# Altium schematic symbol library Moa.SchLib: 185 symbols (part 1 of 3)
Pins are listed as number, name and electrical type; pins without a type are passive.

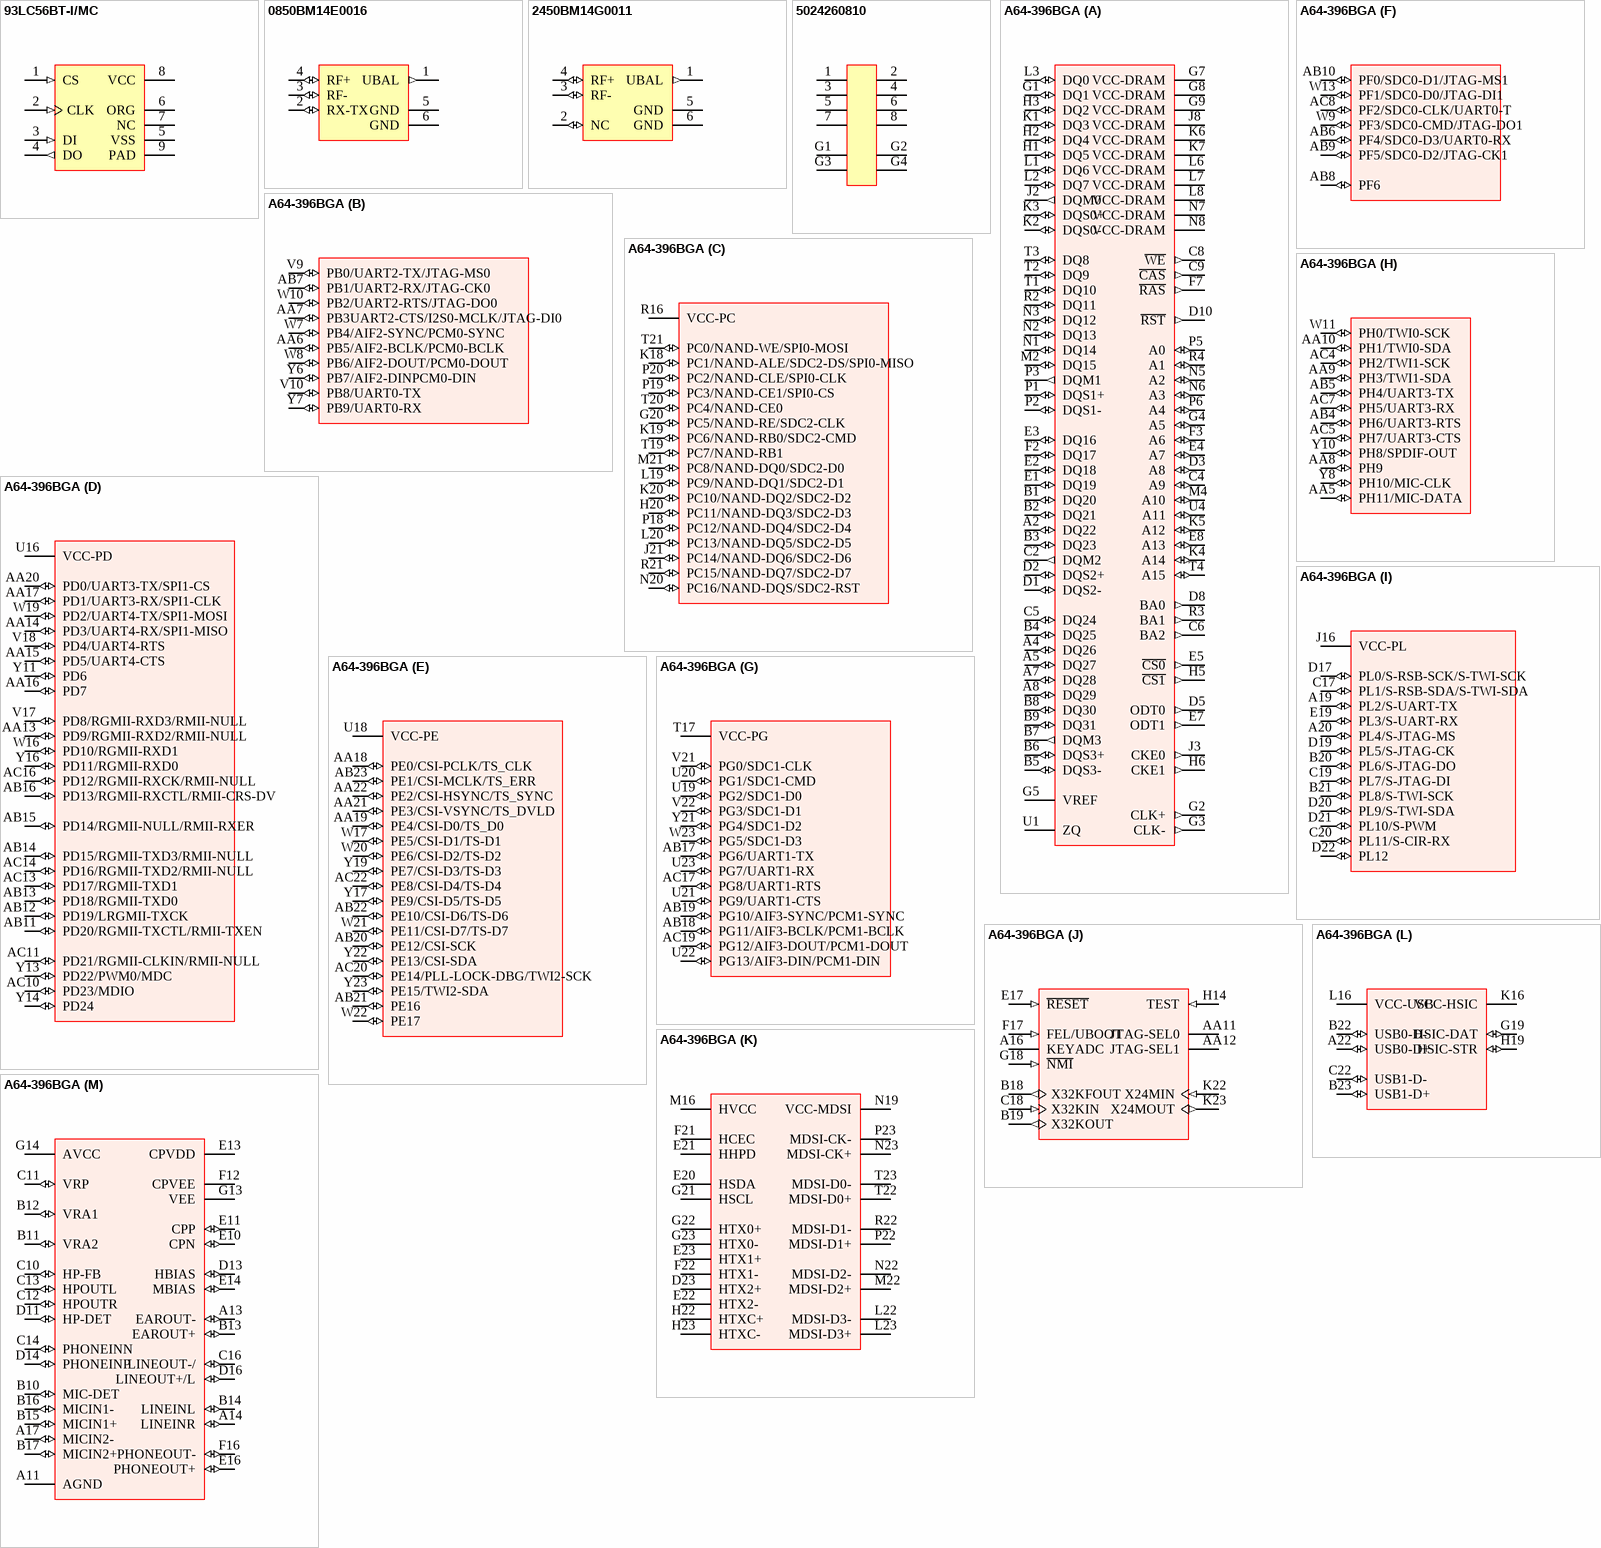
[diagram p0: symbols 93LC56BT-I/MC to A64-396BGA]

## 93LC56BT-I/MC
designator U?
pins: 1 CS (in), 2 CLK (in), 3 DI (in), 4 DO (out), 5 VSS (power), 6 ORG, 7 NC, 8 VCC (power), 9 PAD (power)

## 0850BM14E0016
designator U?
pins: 1 UBAL (out), 2 RX-TX (io), 3 RF- (io), 4 RF+ (io), 5 GND (power), 6 GND (power)

## 2450BM14G0011
designator U?
pins: 1 UBAL (out), 2 NC (io), 3 RF- (io), 4 RF+ (io), 5 GND (power), 6 GND (power)

## 5024260810
designator J?
pins: 1, 2, 3, 4, 5, 6, 7, 8, G1, G2, G3, G4

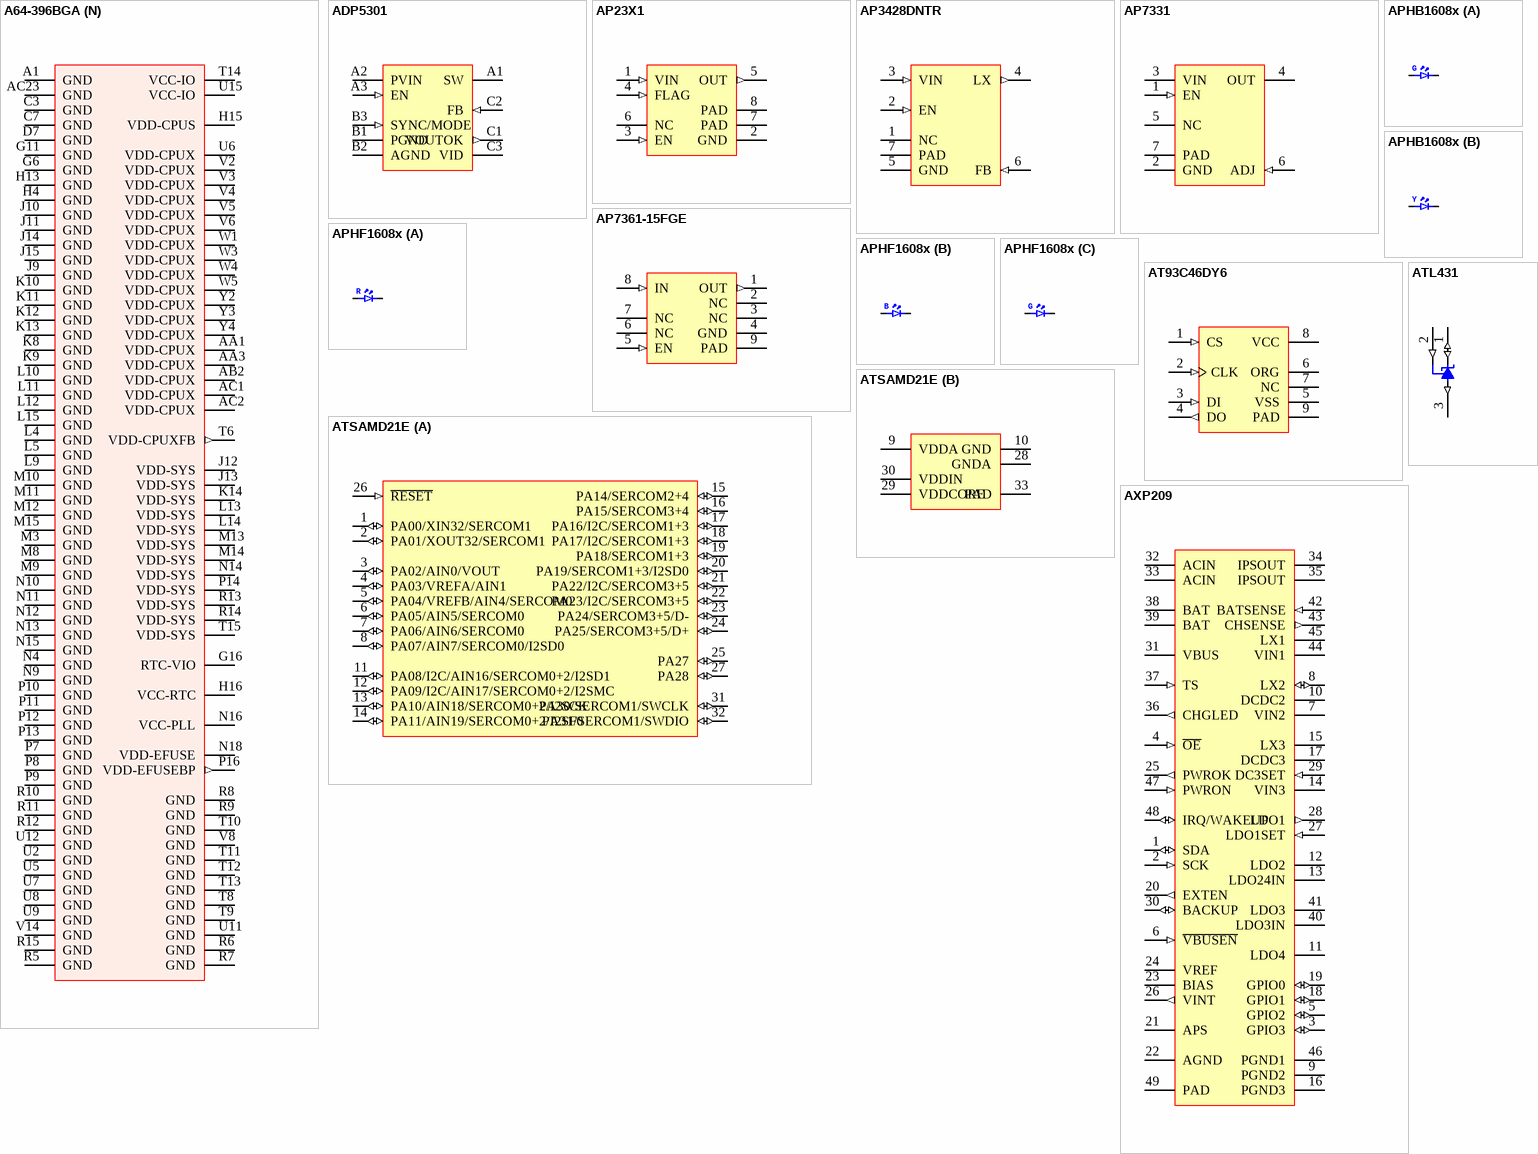
[diagram p1: symbols A64-396BGA to AXP209]

## A64-396BGA
designator U?
part A pins: A2 DQ22 (io) "DRAM", A4 DQ26 (io) "DRAM", A5 DQ27 (io) "DRAM", A7 DQ28 (io) "DRAM", A8 DQ29 (io) "DRAM", B1 DQ20 (io) "DRAM", B2 DQ21 (io) "DRAM", B3 DQ23 (io) "DRAM", B4 DQ25 (io) "DRAM", B5 DQS3- (io) "DRAM", B6 DQS3+ (io) "DRAM", B7 DQM3 (out) "DRAM", B8 DQ30 (io) "DRAM", B9 DQ31 (io) "DRAM", C2 DQM2 (out) "DRAM", C4 A9 (io) "DRAM", C5 DQ24 (io) "DRAM", C6 BA2 (out) "DRAM", C8 ~{WE} (out) "DRAM", C9 ~{CAS} (out) "DRAM", D1 DQS2- (io) "DRAM", D2 DQS2+ (io) "DRAM", D3 A8 (io) "DRAM", D5 ODT0 (out) "DRAM", D8 BA0 (out) "DRAM", D10 ~{RST} (out) "DRAM", E1 DQ19 (io) "DRAM", E2 DQ18 (io) "DRAM", E3 DQ16 (io) "DRAM", E4 A7 (io) "DRAM", E5 ~{CS0} (out) "DRAM", E7 ODT1 (out) "DRAM", E8 A13 (io) "DRAM", F2 DQ17 (io) "DRAM", F3 A6 (io) "DRAM", F7 ~{RAS} (out) "DRAM", G1 DQ1 (io) "DRAM", G2 CLK+ (out) "DRAM", G3 CLK- (out) "DRAM", G4 A5 (io) "DRAM", G5 VREF (power) "DRAM", G7 VCC-DRAM (power) "Power", G8 VCC-DRAM (power) "Power", G9 VCC-DRAM (power) "Power", H1 DQ5 (io) "DRAM", H2 DQ4 (io) "DRAM", H3 DQ2 (io) "DRAM", H5 ~{CS1} (out) "DRAM", H6 CKE1 (out) "DRAM", J2 DQM0 (out) "DRAM", J3 CKE0 (out) "DRAM", J8 VCC-DRAM (power) "Power", K1 DQ3 (io) "DRAM", K2 DQS0- (io) "DRAM", K3 DQS0+ (io) "DRAM", K4 A14 (io) "DRAM", K5 A12 (io) "DRAM", K6 VCC-DRAM (power) "Power", K7 VCC-DRAM (power) "Power", L1 DQ6 (io) "DRAM", L2 DQ7 (io) "DRAM", L3 DQ0 (io) "DRAM", L6 VCC-DRAM (power) "Power", L7 VCC-DRAM (power) "Power", L8 VCC-DRAM (power) "Power", M2 DQ15 (io) "DRAM", M4 A10 (io) "DRAM", N1 DQ14 (io) "DRAM", N2 DQ13 (io) "DRAM", N3 DQ12 (io) "DRAM", N5 A2 (io) "DRAM", N6 A3 (io) "DRAM", N7 VCC-DRAM (power) "Power", N8 VCC-DRAM (power) "Power", P1 DQS1+ (io) "DRAM", P2 DQS1- (io) "DRAM", P3 DQM1 (out) "DRAM", P5 A0 (io) "DRAM", P6 A4 (io) "DRAM", R2 DQ11 (io) "DRAM", R3 BA1 (out) "DRAM", R4 A1 (io) "DRAM", T1 DQ10 (io) "DRAM", T2 DQ9 (io) "DRAM", T3 DQ8 (io) "DRAM", T4 A15 (io) "DRAM", U1 ZQ "DRAM", U4 A11 (io) "DRAM"
part B pins: AA6 PB5/AIF2-BCLK/PCM0-BCLK (io) "GPIO", AA7 PB3UART2-CTS/I2S0-MCLK/JTAG-DI0 (io) "GPIO", AB7 PB1/UART2-RX/JTAG-CK0 (io) "GPIO", V9 PB0/UART2-TX/JTAG-MS0 (io) "GPIO", V10 PB8/UART0-TX (io) "GPIO", W7 PB4/AIF2-SYNC/PCM0-SYNC (io) "GPIO", W8 PB6/AIF2-DOUT/PCM0-DOUT (io) "GPIO", W10 PB2/UART2-RTS/JTAG-DO0  (io) "GPIO", Y6 PB7/AIF2-DINPCM0-DIN (io) "GPIO", Y7 PB9/UART0-RX (io) "GPIO"
part C pins: G20 PC5/NAND-RE/SDC2-CLK (io) "GPIO", H20 PC11/NAND-DQ3/SDC2-D3 (io) "GPIO", J21 PC14/NAND-DQ6/SDC2-D6 (io) "GPIO", K18 PC1/NAND-ALE/SDC2-DS/SPI0-MISO (io) "GPIO", K19 PC6/NAND-RB0/SDC2-CMD (io) "GPIO", K20 PC10/NAND-DQ2/SDC2-D2 (io) "GPIO", L19 PC9/NAND-DQ1/SDC2-D1 (io) "GPIO", L20 PC13/NAND-DQ5/SDC2-D5 (io) "GPIO", M21 PC8/NAND-DQ0/SDC2-D0 (io) "GPIO", N20 PC16/NAND-DQS/SDC2-RST (io) "GPIO", P18 PC12/NAND-DQ4/SDC2-D4 (io) "GPIO", P19 PC3/NAND-CE1/SPI0-CS (io) "GPIO", P20 PC2/NAND-CLE/SPI0-CLK (io) "GPIO", R16 VCC-PC (power) "Power", R21 PC15/NAND-DQ7/SDC2-D7 (io) "GPIO", T19 PC7/NAND-RB1 (io) "GPIO", T20 PC4/NAND-CE0 (io) "GPIO", T21 PC0/NAND-WE/SPI0-MOSI (io) "GPIO"
part D pins: AA13  PD9/RGMII-RXD2/RMII-NULL (io) "GPIO", AA14 PD3/UART4-RX/SPI1-MISO (io) "GPIO", AA15 PD5/UART4-CTS (io) "GPIO", AA16 PD7 (io) "GPIO", AA17 PD1/UART3-RX/SPI1-CLK (io) "GPIO", AA20 PD0/UART3-TX/SPI1-CS (io) "GPIO", AB11  PD20/RGMII-TXCTL/RMII-TXEN (io) "GPIO", AB12  PD19/LRGMII-TXCK (io) "GPIO", AB13  PD18/RGMII-TXD0 (io) "GPIO", AB14  PD15/RGMII-TXD3/RMII-NULL (io) "GPIO", AB15  PD14/RGMII-NULL/RMII-RXER (io) "GPIO", AB16  PD13/RGMII-RXCTL/RMII-CRS-DV (io) "GPIO", AC10 PD23/MDIO (io) "GPIO", AC11 PD21/RGMII-CLKIN/RMII-NULL (io) "GPIO", AC13  PD17/RGMII-TXD1 (io) "GPIO", AC14  PD16/RGMII-TXD2/RMII-NULL (io) "GPIO", AC16  PD12/RGMII-RXCK/RMII-NULL (io) "GPIO", U16 VCC-PD (power) "Power", V17  PD8/RGMII-RXD3/RMII-NULL (io) "GPIO", V18  PD4/UART4-RTS (io) "GPIO", W16 PD10/RGMII-RXD1 (io) "GPIO", W19 PD2/UART4-TX/SPI1-MOSI (io) "GPIO", Y11  PD6 (io) "GPIO", Y13 PD22/PWM0/MDC  (io) "GPIO", Y14 PD24 (io) "GPIO", Y16 PD11/RGMII-RXD0 (io) "GPIO"
part E pins: AA18 PE0/CSI-PCLK/TS_CLK (io) "GPIO", AA19 PE4/CSI-D0/TS_D0 (io) "GPIO", AA21 PE3/CSI-VSYNC/TS_DVLD (io) "GPIO", AA22 PE2/CSI-HSYNC/TS_SYNC  (io) "GPIO", AB20 PE12/CSI-SCK (io) "GPIO", AB21 PE16 (io) "GPIO", AB22 PE10/CSI-D6/TS-D6 (io) "GPIO", AB23 PE1/CSI-MCLK/TS_ERR (io) "GPIO", AC20 PE14/PLL-LOCK-DBG/TWI2-SCK (io) "GPIO", AC22 PE8/CSI-D4/TS-D4 (io) "GPIO", U18 VCC-PE (power) "Power", W17 PE5/CSI-D1/TS-D1 (io) "GPIO", W20 PE6/CSI-D2/TS-D2 (io) "GPIO", W21 PE11/CSI-D7/TS-D7 (io) "GPIO", W22 PE17 (io) "GPIO", Y17 PE9/CSI-D5/TS-D5 (io) "GPIO", Y19 PE7/CSI-D3/TS-D3 (io) "GPIO", Y22 PE13/CSI-SDA (io) "GPIO", Y23 PE15/TWI2-SDA (io) "GPIO"
part F pins: AB6 PF4/SDC0-D3/UART0-RX (io) "GPIO", AB8 PF6 (io) "GPIO", AB9 PF5/SDC0-D2/JTAG-CK1 (io) "GPIO", AB10 PF0/SDC0-D1/JTAG-MS1 (io) "GPIO", AC8 PF2/SDC0-CLK/UART0-T (io) "GPIO", W9 PF3/SDC0-CMD/JTAG-DO1 (io) "GPIO", W13 PF1/SDC0-D0/JTAG-DI1  (io) "GPIO"
part G pins: AB17 PG6/UART1-TX (io) "GPIO", AB18 PG11/AIF3-BCLK/PCM1-BCLK (io) "GPIO", AB19 PG10/AIF3-SYNC/PCM1-SYNC (io) "GPIO", AC17 PG8/UART1-RTS (io) "GPIO", AC19 PG12/AIF3-DOUT/PCM1-DOUT (io) "GPIO", T17 VCC-PG (power) "Power", U19 PG2/SDC1-D0 (io) "GPIO", U20 PG1/SDC1-CMD (io) "GPIO", U21 PG9/UART1-CTS (io) "GPIO", U22 PG13/AIF3-DIN/PCM1-DIN (io) "GPIO", U23 PG7/UART1-RX (io) "GPIO", V21 PG0/SDC1-CLK (io) "GPIO", V22 PG3/SDC1-D1 (io) "GPIO", W23 PG5/SDC1-D3 (io) "GPIO", Y21 PG4/SDC1-D2 (io) "GPIO"
part H pins: AA5 PH11/MIC-DATA (io) "GPIO", AA8 PH9 (io) "GPIO", AA9 PH3/TWI1-SDA (io) "GPIO", AA10 PH1/TWI0-SDA (io) "GPIO", AB4 PH6/UART3-RTS (io) "GPIO", AB5 PH4/UART3-TX (io) "GPIO", AC4 PH2/TWI1-SCK (io) "GPIO", AC5 PH7/UART3-CTS (io) "GPIO", AC7 PH5/UART3-RX (io) "GPIO", W11 PH0/TWI0-SCK (io) "GPIO", Y8 PH10/MIC-CLK (io) "GPIO", Y10 PH8/SPDIF-OUT (io) "GPIO"
part I pins: A19  PL2/S-UART-TX (io) "GPIO", A20  PL4/S-JTAG-MS (io) "GPIO", B20  PL6/S-JTAG-DO (io) "GPIO", B21  PL8/S-TWI-SCK (io) "GPIO", C17 PL1/S-RSB-SDA/S-TWI-SDA (io) "GPIO", C19  PL7/S-JTAG-DI (io) "GPIO", C20  PL11/S-CIR-RX (io) "GPIO", D17  PL0/S-RSB-SCK/S-TWI-SCK (io) "GPIO", D19  PL5/S-JTAG-CK (io) "GPIO", D20  PL9/S-TWI-SDA (io) "GPIO", D21  PL10/S-PWM (io) "GPIO", D22 PL12  (io) "GPIO", E19  PL3/S-UART-RX (io) "GPIO", J16 VCC-PL (power) "Power"
part J pins: A16 KEYADC "LRADC", AA11 JTAG-SEL0 "Debug", AA12 JTAG-SEL1 "Debug", B18 X32KFOUT (out) "RTC", B19 X32KOUT (out) "RTC", C18 X32KIN (in) "RTC", E17 ~{RESET} (in) "System Control", F17 FEL/UBOOT (in) "System Control", G18 ~{NMI} (in) "System Control", H14 TEST (in) "System Control", K22 X24MIN (in) "System Control", K23 X24MOUT (out) "System Control"
part K pins: D23 HTX2+ "HDMI", E20 HSDA "HDMI", E21 HHPD "HDMI", E22 HTX2- "HDMI", E23 HTX1+ "HDMI", F21 HCEC "HDMI", F22 HTX1- "HDMI", G21 HSCL "HDMI", G22 HTX0+ "HDMI", G23 HTX0- "HDMI", H22 HTXC+ "HDMI", H23 HTXC- "HDMI", L22 MDSI-D3- "MIPI DSI", L23 MDSI-D3+ "MIPI DSI", M16 HVCC (power) "Power", M22 MDSI-D2+ "MIPI DSI", N19 VCC-MDSI (power) "Power", N22 MDSI-D2- "MIPI DSI", N23 MDSI-CK+ "MIPI DSI", P22 MDSI-D1+ "MIPI DSI", P23 MDSI-CK- "MIPI DSI", R22 MDSI-D1- "MIPI DSI", T22 MDSI-D0+ "MIPI DSI", T23 MDSI-D0- "MIPI DSI"
part L pins: A22 USB0-D+ (io) "USB", B22 USB0-D- (io) "USB", B23 USB1-D+ (io) "USB", C22 USB1-D- (io) "USB", G19 HSIC-DAT (io) "HSIC", H19 HSIC-STR (io) "HSIC", K16 VCC-HSIC (power) "Power", L16 VCC-USB (power) "Power"
part M pins: A11 AGND (power) "Power", A13 EAROUT- (io) "Audio Codec", A14 LINEINR (io) "Audio Codec", A17 MICIN2- (io) "Audio Codec", B10 MIC-DET (io) "Audio Codec", B11 VRA2 (io) "Audio Codec", B12 VRA1 (io) "Audio Codec", B13 EAROUT+ (io) "Audio Codec", B14 LINEINL (io) "Audio Codec", B15 MICIN1+ (io) "Audio Codec", B16 MICIN1- (io) "Audio Codec", B17 MICIN2+ (io) "Audio Codec", C10 HP-FB (io) "Audio Codec", C11 VRP (io) "Audio Codec", C12 HPOUTR (io) "Audio Codec", C13 HPOUTL (io) "Audio Codec", C14 PHONEINN (io) "Audio Codec", C16 LINEOUT-/ (io) "Audio Codec", D11 HP-DET (io) "Audio Codec", D13 HBIAS (io) "Audio Codec", D14 PHONEINP (io) "Audio Codec", D16 LINEOUT+/L (io) "Audio Codec", E10 CPN (io) "Audio Codec", E11 CPP (io) "Audio Codec", E13 CPVDD (power) "Power", E14 MBIAS (io) "Audio Codec", E16 PHONEOUT+ (io) "Audio Codec", F12 CPVEE (power) "Power", F16 PHONEOUT- (io) "Audio Codec", G13 VEE (power) "Power", G14 AVCC (power) "Power"
part N pins: A1 GND (power) "Power", AA1 VDD-CPUX (power) "Power", AA3 VDD-CPUX (power) "Power", AB2 VDD-CPUX (power) "Power", AC1 VDD-CPUX (power) "Power", AC2 VDD-CPUX (power) "Power", AC23 GND (power) "Power", C3 GND (power) "Power", C7 GND (power) "Power", D7 GND (power) "Power", G6 GND (power) "Power", G11 GND (power) "Power", G16 RTC-VIO (power) "Power", H4 GND (power) "Power", H13 GND (power) "Power", H15 VDD-CPUS (power) "Power", H16 VCC-RTC (power) "Power", J9 GND (power) "Power", J10 GND (power) "Power", J11 GND (power) "Power", J12 VDD-SYS (power) "Power", J13 VDD-SYS (power) "Power", J14 GND (power) "Power", J15 GND (power) "Power", K8 GND (power) "Power", K9 GND (power) "Power", K10 GND (power) "Power", K11 GND (power) "Power", K12 GND (power) "Power", K13 GND (power) "Power", K14 VDD-SYS (power) "Power", L4 GND (power) "Power", L5 GND (power) "Power", L9 GND (power) "Power", L10 GND (power) "Power", L11 GND (power) "Power", L12 GND (power) "Power", L13 VDD-SYS (power) "Power", L14 VDD-SYS (power) "Power", L15 GND (power) "Power", M3 GND (power) "Power", M8 GND (power) "Power", M9 GND (power) "Power", M10 GND (power) "Power", M11 GND (power) "Power", M12 GND (power) "Power", M13 VDD-SYS (power) "Power", M14 VDD-SYS (power) "Power", M15 GND (power) "Power", N4 GND (power) "Power", N9 GND (power) "Power", N10 GND (power) "Power", N11 GND (power) "Power", N12 GND (power) "Power", N13 GND (power) "Power", N14 VDD-SYS (power) "Power", N15 GND (power) "Power", N16 VCC-PLL (power) "Power", N18 VDD-EFUSE (power) "Power", P7 GND (power) "Power", P8 GND (power) "Power", P9 GND (power) "Power", P10 GND (power) "Power", P11 GND (power) "Power", P12 GND (power) "Power", P13 GND (power) "Power", P14 VDD-SYS (power) "Power", P16 VDD-EFUSEBP (out) "Power", R5 GND (power) "Power", R6 GND (power) "Power", R7 GND (power) "Power", R8 GND (power) "Power", R9 GND (power) "Power", R10 GND (power) "Power", R11 GND (power) "Power", R12 GND (power) "Power", R13 VDD-SYS (power) "Power", R14 VDD-SYS (power) "Power", R15 GND (power) "Power", T6 VDD-CPUXFB (out) "Power", T8 GND (power) "Power", T9 GND (power) "Power", T10 GND (power) "Power", T11 GND (power) "Power", T12 GND (power) "Power", T13 GND (power) "Power", T14 VCC-IO (power) "Power", T15 VDD-SYS (power) "Power", U2 GND (power) "Power", U5 GND (power) "Power", U6 VDD-CPUX (power) "Power", U7 GND (power) "Power", U8 GND (power) "Power", U9 GND (power) "Power", U11 GND (power) "Power", U12 GND (power) "Power", U15 VCC-IO (power) "Power", V2 VDD-CPUX (power) "Power", V3 VDD-CPUX (power) "Power", V4 VDD-CPUX (power) "Power", V5 VDD-CPUX (power) "Power", V6 VDD-CPUX (power) "Power", V8 GND (power) "Power", V14 GND (power) "Power", W1 VDD-CPUX (power) "Power", W3 VDD-CPUX (power) "Power", W4 VDD-CPUX (power) "Power", W5 VDD-CPUX (power) "Power", Y2 VDD-CPUX (power) "Power", Y3 VDD-CPUX (power) "Power", Y4 VDD-CPUX (power) "Power"

## ADP5301
designator U?
pins: A1 SW (power), A2 PVIN (power), A3 EN (in), B1 PGND (power), B2 AGND (power), B3 SYNC/MODE (in), C1 VOUTOK (out), C2 FB (in), C3 VID

## AP23X1
designator U?
pins: 1 VIN (in), 2 GND (power), 3 EN (in), 4 FLAG (in), 5 OUT (out), 6 NC, 7 PAD (power), 8 PAD (power)

## AP3428DNTR
designator U?
pins: 1 NC, 2 EN (in), 3 VIN (in), 4 LX (out), 5 GND (power), 6 FB (in), 7 PAD (power)

## AP7331
designator U?
pins: 1 EN (in), 2 GND (power), 3 VIN (power), 4 OUT (power), 5 NC, 6 ADJ (in), 7 PAD (power)

## AP7361-15FGE
designator U?
pins: 1 OUT (out), 2 NC, 3 NC, 4 GND (power), 5 EN (in), 6 NC, 7 NC, 8 IN (in), 9 PAD (power)

## APHB1608x
designator D?
part A pins: 1, 2
part B pins: 3, 4
part A text: G
part B text: Y

## APHF1608x
designator D?
part A pins: 1, 2
part B pins: 1, 3
part C pins: 1, 4
part A text: R
part B text: B
part C text: G

## AT93C46DY6
designator U?
pins: 1 CS (in), 2 CLK (in), 3 DI (in), 4 DO (out), 5 VSS (power), 6 ORG, 7 NC, 8 VCC (power), 9 PAD (power)

## ATL431
designator U?
pins: 1 CATHODE (io), 2 REF (in), 3 ANODE (out)

## ATSAMD21E
designator U?
part A pins: 1 PA00/XIN32/SERCOM1 (io), 2 PA01/XOUT32/SERCOM1 (io), 3 PA02/AIN0/VOUT (io), 4 PA03/VREFA/AIN1 (io), 5 PA04/VREFB/AIN4/SERCOM0 (io), 6 PA05/AIN5/SERCOM0 (io), 7 PA06/AIN6/SERCOM0 (io), 8 PA07/AIN7/SERCOM0/I2SD0 (io), 11 PA08/I2C/AIN16/SERCOM0+2/I2SD1 (io), 12 PA09/I2C/AIN17/SERCOM0+2/I2SMC (io), 13 PA10/AIN18/SERCOM0+2/I2SCK (io), 14 PA11/AIN19/SERCOM0+2/I2SF0 (io), 15 PA14/SERCOM2+4 (io), 16 PA15/SERCOM3+4 (io), 17 PA16/I2C/SERCOM1+3 (io), 18 PA17/I2C/SERCOM1+3 (io), 19 PA18/SERCOM1+3 (io), 20 PA19/SERCOM1+3/I2SD0 (io), 21 PA22/I2C/SERCOM3+5 (io), 22 PA23/I2C/SERCOM3+5 (io), 23 PA24/SERCOM3+5/D- (io), 24 PA25/SERCOM3+5/D+ (io), 25 PA27 (io), 26 ~{RESET} (in), 27 PA28 (io), 31 PA30/SERCOM1/SWCLK (io), 32 PA31/SERCOM1/SWDIO (io)
part B pins: 9 VDDA (power), 10 GND (power), 28 GNDA (power), 29 VDDCORE (power), 30 VDDIN (power), 33 PAD (power)

## AXP209
designator U?
pins: 1 SDA (io) "Data pin for serial interface, normally it connect a 2.2K resistor to 3.3V I/O power", 2 SCK (in) "It is the Clock pin for serial interface, normally it connect a 2.2K resistor to 3.3V I/O power", 3 GPIO3 (io) "GPIO 3", 4 ~{OE} (in) "Power output on / off switch GND: on; IPSOUT: off", 5 GPIO2 (io) "GPIO 2", 6 ~{VBUSEN} (in) "VBUS to IPSOUT Selection - GND: IPSOUT select VBUS - High: IPSOUT do not select VBUS", 7 VIN2 (power) "DCDC2 input source", 8 LX2 (io) "Inductor Pin for DCDC2", 9 PGND2 (power) "NMOS Ground for DCDC2", 10 DCDC2 (power) "DC-DC2 feedback pin", 11 LDO4 (power) "Output Pin of LDO4", 12 LDO2 (power) "Output Pin of LDO2", 13 LDO24IN (power) "Input to LDO2 and LDO4", 14 VIN3 (power) "DCDC3 input source", 15 LX3 (power) "Inductor Pin for DCDC3", 16 PGND3 (power) "NMOS GND for DCDC3", 17 DCDC3 (power) "Feedback to DCDC3", 18 GPIO1 (io) "GPIO 1 - ADC Input", 19 GPIO0 (io) "GPIO 0 - Low noise LDO / Switch - ADC Input", 20 EXTEN (out) "External Power Enable", 21 APS (power) "Internal Power Input", 22 AGND (power) "Analog Ground", 23 BIAS "External 200Kohm 1% resistor", 24 VREF (power) "Internal reference voltage", 25 PWROK (out) "Power Good indication Output", 26 VINT (out) "Internal logic power, 2.5V", 27 LDO1SET (in) "It set the LDO1 default voltage.", 28 LDO1 (out) "LDO1 output, for Host RTC block", 29 DC3SET (in) "It set the DCDC3 default voltage", 30 BACKUP (io) "Backup battery pin", 31 VBUS (power) "USB VBUS input", 32 ACIN (power) "Adapter input", 33 ACIN (power) "Adapter input", 34 IPSOUT (power) "Selected power", 35 IPSOUT (power) "Selected power", 36 CHGLED (out) "Charger status indication", 37 TS (in) "Battery Temperature sensor input or an external ADC input", 38 BAT (power) "System power source", 39 BAT (power) "System power source", 40 LDO3IN (power) "LDO3 input source", 41 LDO3 (power) "Output Pin of LDO3", 42 BATSENSE (in) "Current sense port1", 43 CHSENSE (out) "Current sense port2", 44 VIN1 (power) "DCDC1 input source", 45 LX1 (power) "Inductor Pin for DCDC1", 46 PGND1 (power) "NMOS Ground for DCDC1", 47 PWRON (in) "Power On-Off key input,Internal 100k pull high to APS", 48 IRQ/WAKEUP (io) "IRQ output or wakeup", 49 PAD (power) "Exposed Pad, need to connect to system ground"

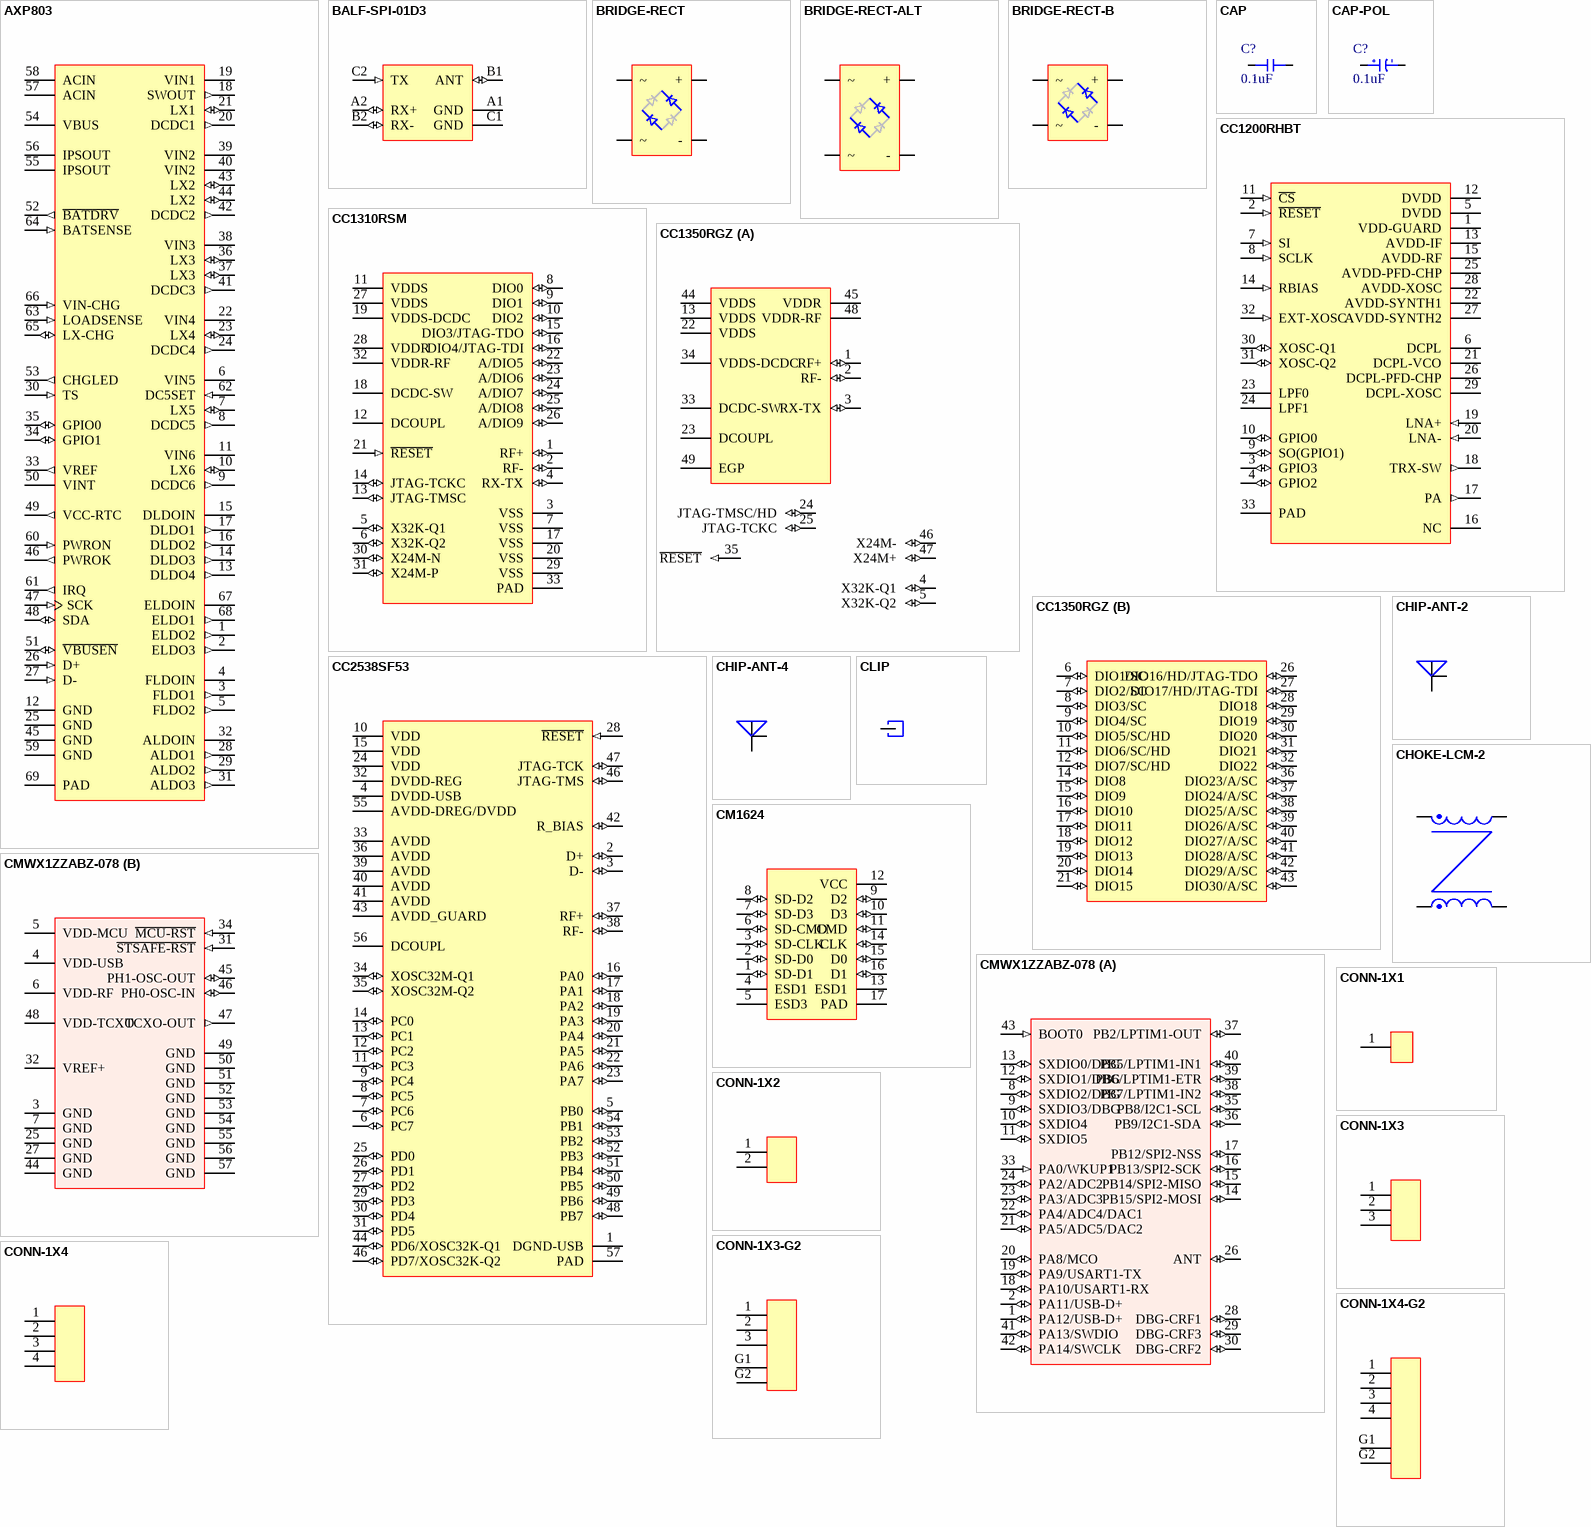
[diagram p2: symbols AXP803 to CONN-1X4-G2]

## AXP803
designator U?
pins: 1 ELDO2 (out) "Output pin of ELDO2", 2 ELDO3 (out) "Output pin of ELDO3", 3 FLDO1 (out) "Output Pin of FLDO1", 4 FLDOIN (power) "FLDOs input source", 5 FLDO2 (out) "Output Pin of FLDO2", 6 VIN5 (power) "DCDC5 input source", 7 LX5 (io) "Inductor Pin for DCDC5", 8 DCDC5 (out) "DCDC5 feedback pin", 9 DCDC6 (out) "DCDC6 feedback pin", 10 LX6 (io) "Inductor Pin for DCDC6", 11 VIN6 (power) "DCDC6 input source", 12 GND (power) "GND for internal analog circuit", 13 DLDO4 (out) "Output Pin of DLDO4", 14 DLDO3 (out) "Output Pin of DLDO3", 15 DLDOIN (power) "DLDOs input source", 16 DLDO2 (out) "Output Pin of DLDO2", 17 DLDO1 (out) "Output Pin of DLDO1", 18 SWOUT (out) "Output pin of switch form DCDC1", 19 VIN1 (power) "DCDC1 input source", 20 DCDC1 (out) "DCDC1 feedback and Switch(from DCDC1 to SWOUT) input pin", 21 LX1 (io) "Inductor Pin for DCDC1", 22 VIN4 (power) "DCDC4 input source", 23 LX4 (io) "Inductor Pin for DCDC4", 24 DCDC4 (out) "DCDC4 feedback pin", 25 GND (power) "GND for internal analog circuit", 26 D+ (in) "Charger detection, USB D+", 27 D- (in) "Charger detection, USB D-", 28 ALDO1 (out) "Output pin of ALDO1", 29 ALDO2 (out) "Output pin of ALDO2", 30 TS (in) "Battery Temperature Sensor Input or an External ADC Input", 31 ALDO3 (out) "Output pin of ALDO3", 32 ALDOIN (power) "ALDOs and internal module input source", 33 VREF (out) "Internal reference voltage, connect a 1uF capacitor to ground", 34 GPIO1 (io) "General purpose I/O or LDO by REG92H. When it's digital input, the logic high level is 1.5V, and the logic low level is 0.5V typically. When it's digital output, the logic high level is decided by REG93H.", 35 GPIO0 (io) "General purpose I/O/ADC input or LDO by REG90H. When it's digital input, the logic high level is 1.5V, and the logic low level is 0.5V typically. When it's digital output, the logic high level is decided by REG91H.", 36 LX3 (io) "Inductor Pin for DCDC3", 37 LX3 (io) "Inductor Pin for DCDC3", 38 VIN3 (power) "DCDC3 input source", 39 VIN2 (power) "DCDC2/3 input source", 40 VIN2 (power) "DCDC2 input source", 41 DCDC3 (out) "DCDC3 feedback pin", 42 DCDC2 (out) "DCDC2 feedback pin", 43 LX2 (io) "Inductor Pin for DCDC2", 44 LX2 (io) "Inductor Pin for DCDC2", 45 GND (power) "GND for internal analog circuit", 46 PWROK (out) "Power Good pin, push-pull output , and pull to VCC_RTC internal", 47 SCK (in) "Clock pin for serial interface, need a 2.2KΩ Pull High.", 48 SDA (io) "Data pin for serial interface, need a 2.2KΩ Pull High.", 49 VCC-RTC (out) "Output pin of RTCLDO", 50 VINT "Internal logic power, 1.8V", 51 ~{VBUSEN} (io) "VBUS select or not setting pin", 52 ~{BATDRV} (out) "BAT to PS extern PMOS driver", 53 CHGLED (out) "Charger status indication", 54 VBUS (power) "VBUS input", 55 IPSOUT "System power source", 56 IPSOUT "System power source", 57 ACIN (power) "ACIN input", 58 ACIN (power) "ACIN input", 59 GND (power) "GND for internal analog circuit", 60 PWRON (in) "Power On-Off key input，Internal 100k pull high to VINT pin", 61 IRQ (out) "Interrupt output, open drain output, need a 10KΩ Pull High", 62 DC5SET (in) "Setting DCDC5 default Output Voltage, this pin must tied to GND/VINT or floating.", 63 LOADSENSE (in) "PWM Charger Current Sense Resistance Positive Input", 64 BATSENSE (in) "PWM Charger Current Sense Resistance Negative Input", 65 LX-CHG (io) "Inductor Pin for PWM Charger", 66 VIN-CHG (in) "Charger input source", 67 ELDOIN (power) "ELDOs input source", 68 ELDO1 (out) "Output pin of ELDO1", 69 PAD (power) "Exposed pad, connected to PCB ground"

## BALF-SPI-01D3
designator U?
pins: A1 GND (power), A2 RX+ (io), B1 ANT (io), B2 RX- (io), C1 GND (power), C2 TX (in)

## BRIDGE-RECT
designator D?
pins: 1 +, 2 -, 3 ~, 4 ~

## BRIDGE-RECT-ALT
designator D?
pins: 1 ~, 2 +, 3 ~, 4 -

## BRIDGE-RECT-B
designator D?
pins: 1 +, 2 ~, 3 ~, 4 -

## CAP
designator C?, comment 0.1uF
Value: 0.1uF
pins: 1, 2

## CAP-POL
designator C?, comment 0.1uF
Value: 0.1uF
pins: 1, 2

## CC1200RHBT
designator U?
pins: 1 VDD-GUARD (power) "Power", 2 ~{RESET} (in) "Reset", 3 GPIO3 (io) "GPIO", 4 GPIO2 (io) "GPIO", 5 DVDD (power) "Power", 6 DCPL (power) "Power", 7 SI (in) "SPI", 8 SCLK (in) "SPI", 9 SO(GPIO1) (io) "SPI", 10 GPIO0 (io) "GPIO", 11 ~{CS} (in) "SPI", 12 DVDD (power) "Power", 13 AVDD-IF (power) "Radio", 14 RBIAS (in) "Power", 15 AVDD-RF (power) "Radio", 16 NC "Passive", 17 PA (out) "Radio", 18 TRX-SW (out) "Radio", 19 LNA+ (in) "Radio", 20 LNA- (in) "Radio", 21 DCPL-VCO (power) "Power", 22 AVDD-SYNTH1 (power) "Power", 23 LPF0 "Radio", 24 LPF1 "Radio", 25 AVDD-PFD-CHP (power) "Power", 26 DCPL-PFD-CHP (power) "Power", 27 AVDD-SYNTH2 (power) "Power", 28 AVDD-XOSC (power) "Power", 29 DCPL-XOSC (power) "Power", 30 XOSC-Q1 (io) "Clock", 31 XOSC-Q2 (io) "Clock", 32 EXT-XOSC (in) "Clock", 33 PAD (power) "Pad"

## CC1310RSM
designator U?
pins: 1 RF+ (io) "Positive RF input signal to LNA during RX Positive RF output signal from PA during TX", 2 RF- (io) "Negative RF input signal to LNA during RX Negative RF output signal from PA during TX", 3 VSS (power) "Ground", 4 RX-TX (io) "Optional bias pin for the RF LNA", 5 X32K-Q1 (io) "32-kHz crystal oscillator pin 1", 6 X32K-Q2 (io) "32-kHz crystal oscillator pin 2", 7 VSS (power) "Ground", 8 DIO0 (io) "GPIO, Sensor Controller, high-drive capability", 9 DIO1 (io) "GPIO, Sensor Controller, high-drive capability", 10 DIO2 (io) "GPIO, Sensor Controller, high-drive capability", 11 VDDS (power) "1.8-V to 3.8-V GPIO supply(1)", 12 DCOUPL (power) "1.27-V regulated digital-supply decoupling cap", 13 JTAG-TMSC (io) "JTAG TMSC", 14 JTAG-TCKC (io) "JTAG TCKC", 15 DIO3/JTAG-TDO (io) "GPIO, high-drive capability, JTAG_TDO", 16 DIO4/JTAG-TDI (io) "GPIO, high-drive capability, JTAG_TDI", 17 VSS (power) "Ground", 18 DCDC-SW (power) "Output from internal DC-DC(1)", 19 VDDS-DCDC (power) "1.8-V to 3.8-V DC-DC supply", 20 VSS (power) "Ground", 21 ~{RESET} (in) "Reset, active low. No internal pullup.", 22 A/DIO5 (io) "GPIO, Sensor Controller, analog", 23 A/DIO6 (io) "GPIO, Sensor Controller, analog", 24 A/DIO7 (io) "GPIO, Sensor Controller, analog", 25 A/DIO8 (io) "GPIO, Sensor Controller, analog", 26 A/DIO9 (io) "GPIO, Sensor Controller, analog", 27 VDDS (power) "1.8-V to 3.8-V main chip supply(1)", 28 VDDR (power) "1.7-V to 1.95-V supply, connect to output of int", 29 VSS (power) "Ground", 30 X24M-N (io) "24-MHz crystal oscillator pin 1", 31 X24M-P (io) "24-MHz crystal oscillator pin 2", 32 VDDR-RF (power) "1.7-V to 1.95-V supply, connect to output of int", 33 PAD (power) "Ground; exposed ground pad"

## CC1350RGZ
designator U?
part A pins: 1 RF+ (io) "Positive RF input signal to LNA during RX Positive RF output signal from PA during TX", 2 RF- (io) "Negative RF input signal to LNA during RX Negative RF output signal from PA during TX", 3 RX-TX (io) "Optional bias pin for the RF LNA", 4 X32K-Q1 (io) "32-kHz crystal oscillator pin 1", 5 X32K-Q2 (io) "32-kHz crystal oscillator pin 2", 13 VDDS (power) "1.8-V to 3.8-V DIO supply", 22 VDDS (power) "1.8-V to 3.8-V DIO supply", 23 DCOUPL (power) "1.27-V regulated digital-supply (decoupling capacitor)", 24 JTAG-TMSC/HD (io) "JTAG TMSC, high-drive capability", 25 JTAG-TCKC (io) "JTAG TCKC(3)", 33 DCDC-SW (power) "Output from internal DC-DC", 34 VDDS-DCDC (power) "1.8-V to 3.8-V DC-DC supply", 35 ~{RESET} (in) "Reset, active-low. No internal pullup.", 44 VDDS (power) "1.8-V to 3.8-V main chip supply", 45 VDDR (power) "1.7-V to 1.95-V supply, connect to output of internal DC-D", 46 X24M- (io) "24-MHz crystal oscillator pin 1", 47 X24M+ (io) "24-MHz crystal oscillator pin 2", 48 VDDR-RF (power) "1.7-V to 1.95-V supply, connect to output of internal DC-DC", 49 EGP (power) "Ground; exposed ground pad"
part B pins: 6 DIO1/SC (io) "GPIO, Sensor Controller", 7 DIO2/SC (io) "GPIO, Sensor Controller", 8 DIO3/SC (io) "GPIO, Sensor Controller", 9 DIO4/SC (io) "GPIO, Sensor Controller", 10 DIO5/SC/HD (io) "GPIO, Sensor Controller, high-drive capability", 11 DIO6/SC/HD (io) "GPIO, Sensor Controller, high-drive capability", 12 DIO7/SC/HD (io) "GPIO, Sensor Controller, high-drive capability", 14 DIO8 (io) "GPIO", 15 DIO9 (io) "GPIO", 16 DIO10 (io) "GPIO", 17 DIO11 (io) "GPIO", 18 DIO12 (io) "GPIO", 19 DIO13 (io) "GPIO", 20 DIO14 (io) "GPIO", 21 DIO15 (io) "GPIO", 26 DIO16/HD/JTAG-TDO (io) "GPIO, JTAG_TDO, high-drive capability", 27 DIO17/HD/JTAG-TDI (io) "GPIO, JTAG_TDI, high-drive capability", 28 DIO18 (io) "GPIO", 29 DIO19 (io) "GPIO", 30 DIO20 (io) "GPIO", 31 DIO21 (io) "GPIO", 32 DIO22 (io) "GPIO", 36 DIO23/A/SC (io) "GPIO, Sensor Controller, analog", 37 DIO24/A/SC (io) "GPIO, Sensor Controller, analog", 38 DIO25/A/SC (io) "GPIO, Sensor Controller, analog", 39 DIO26/A/SC (io) "GPIO, Sensor Controller, analog", 40 DIO27/A/SC (io) "CC1350RGZ", 41 DIO28/A/SC (io) "GPIO, Sensor Controller, analog", 42 DIO29/A/SC (io) "GPIO, Sensor Controller, analog", 43 DIO30/A/SC (io) "GPIO, Sensor Controller, analog"

## CC2538SF53
designator U?
pins: 1 DGND-USB (power) "Power", 2 D+ (io) "USB", 3 D- (io) "USB", 4 DVDD-USB (power) "Power", 5 PB0 (io) "GPIO B", 6 PC7 (io) "GPIO C", 7 PC6 (io) "GPIO C", 8 PC5 (io) "GPIO C", 9 PC4 (io) "GPIO C", 10 VDD (power) "Power", 11 PC3 (io) "GPIO C", 12 PC2 (io) "GPIO C", 13 PC1 (io) "GPIO C", 14 PC0 (io) "GPIO C", 15 VDD (power) "Power", 16 PA0 (io) "GPIO A", 17 PA1 (io) "GPIO A", 18 PA2 (io) "GPIO A", 19 PA3 (io) "GPIO A", 20 PA4 (io) "GPIO A", 21 PA5 (io) "GPIO A", 22 PA6 (io) "GPIO A", 23 PA7 (io) "GPIO A", 24 VDD (power) "Power", 25 PD0 (io) "GPIO D", 26 PD1 (io) "GPIO D", 27 PD2 (io) "GPIO D", 28 ~{RESET} (in) "Reset", 29 PD3 (io) "GPIO D", 30 PD4 (io) "GPIO D", 31 PD5 (io) "GPIO D", 32 DVDD-REG (power) "Power", 33 AVDD (power) "Power", 34 XOSC32M-Q1 (io) "Clock", 35 XOSC32M-Q2 (io) "Clock", 36 AVDD (power) "Power", 37 RF+ (io) "Radio", 38 RF- (io) "Radio", 39 AVDD (power) "Power", 40 AVDD (power) "Power", 41 AVDD (power) "Power", 42 R_BIAS (io) "Radio", 43 AVDD_GUARD (power) "Power", 44 PD6/XOSC32K-Q1 (io) "GPIO D", 46 PD7/XOSC32K-Q2 (io) "GPIO D", 46 JTAG-TMS (io) "Debug", 47 JTAG-TCK (io) "Debug", 48 PB7 (io) "GPIO B", 49 PB6 (io) "GPIO B", 50 PB5 (io) "GPIO B", 51 PB4 (io) "GPIO B", 52 PB3 (io) "GPIO B", 53 PB2 (io) "GPIO B", 54 PB1 (io) "GPIO B", 55 AVDD-DREG/DVDD (power) "Power", 56 DCOUPL (power) "Power", 57 PAD (power) "Power"

## CHIP-ANT-2
designator ANT?
pins: 1, 2

## CHIP-ANT-4
designator ANT?
pins: 1, 2, 3, 4

## CHOKE-LCM-2
designator L?
pins: 1, 2, 3, 4

## CLIP
designator CP?
pins: 1

## CM1624
designator U?
pins: 1 SD-D1 (io), 2 SD-D0 (io), 3 SD-CLK (io), 4 ESD1 (power), 5 ESD3 (power), 6 SD-CMD (io), 7 SD-D3 (io), 8 SD-D2 (io), 9 D2 (io), 10 D3 (io), 11 CMD (io), 12 VCC (power), 13 ESD1 (power), 14 CLK (io), 15 D0 (io), 16 D1 (io), 17 PAD (power)

## CMWX1ZZABZ-078
designator U?
part A pins: 1 PA12/USB-D+ (io) "GPIO Mode:PA12.(Power supplied by VDD_USB) USB_DP", 2 PA11/USB-D+ (io) "GPIO Mode:PA11,( Power supplied by VDD_USB) USB_DM", 8 SXDIO2/DBG (io) "Debug pin for SX1276, customer cannot use it", 9 SXDIO3/DBG (io) "Debug pin for SX1276, customer cannot use it", 10 SXDIO4 (io) "SX1276 DIO4. Possible to connect to Pin21 PA5 for future usage. Contact ST for further information", 11 SXDIO5 (io) "Debug pin for SX1276. Possible to connect to Pin22 PA4 for future usage. Contact ST for further information", 12 SXDIO1/DBG (io) "Debug pin for SX1276, customer cannot use it", 13 SXDIO0/DBG (io) "Debug pin for SX1276, customer cannot use it", 14 PB15/SPI2-MOSI (io) "GPIO Mode:PB15  SPI2_MOSI", 15 PB14/SPI2-MISO (io) "GPIO Mode:PB14  SPI2_ MISO", 16 PB13/SPI2-SCK (io) "GPIO Mode:PB13 SPI2_SCK", 17 PB12/SPI2-NSS (io) "GPIO Mode:PB12 SPI2_NSS", 18 PA10/USART1-RX (io) "GPIO Mode:PA10 USART1_RX", 19 PA9/USART1-TX (io) "GPIO Mode:PA9 USART1_TX", 20 PA8/MCO (io) "GPIO Mode:PA8 MCO", 21 PA5/ADC5/DAC2 (io) "GPIO Mode:PA5 COMP2_INM ADC_IN5  DAC_OUT2 Possible to connect to Pin10 for future usage. Contact ST for more information", 22 PA4/ADC4/DAC1 (io) "GPIO Mode:PA4 COMP2_INM ADC_IN4 DAC_OUT1 Possible to connect to Pin11 for future usage. Contact ST for more information", 23 PA3/ADC3 (io) "GPIO Mode:PA3 COMP2_ INP ADC_IN3 USART2_RX", 24 PA2/ADC2 (io) "GPIO Mode:PA2 COMP2_OUT  ADC_IN2 USART2_TX", 26 ANT (io) "Transmit / Receive Antenna", 28 DBG-CRF1 (io) "Debug pin. Cannot be used as GPIO", 29 DBG-CRF3 (io) "Debug pin. Cannot be used as GPIO", 30 DBG-CRF2 (io) "Debug pin. Cannot be used as GPIO", 33 PA0/WKUP1 (in) "GPIO Mode:PA0 COMP1_OUT  ADC_IN0", 35 PB8/I2C1-SCL (io) "GPIO Mode:PB8 I2C mode: SCL", 36 PB9/I2C1-SDA (io) "GPIO Mode: PB9 I2C mode: SDA", 37 PB2/LPTIM1-OUT (io) "GPIO Mode:PB2 LPTIM1_OUT", 38 PB7/LPTIM1-IN2 (io) "GPIO Mode:PB7 LPTIM1_IN2", 39 PB6/LPTIM1-ETR (io) "GPIO Mode:PB6 LPTIM1_ETR", 40 PB5/LPTIM1-IN1 (io) "GPIO Mode:PB5 LPTIM1_IN1", 41 PA13/SWDIO (io) "GPIO Mode:PA13 SWDIO LPUART1_RX", 42 PA14/SWCLK (io) "GPIO Mode:PA14 SWCLK  LPUART1_TX", 43 BOOT0 (in) "Boot Option"
part B pins: 3 GND (power) "Ground", 4 VDD-USB (power) "Power supply for USB", 5 VDD-MCU (power) "Power supply for MCU", 6 VDD-RF (power) "Power supply for RF IC", 7 GND (power) "Ground", 25 GND (power) "Ground", 27 GND (power) "Ground", 31 ~{STSAFE-RST} (in) "Reset for Security IC", 32 VREF+ (power) "Reference Voltage For ADC and DAC", 34 ~{MCU-RST} (in) "NRST", 44 GND (power) "Ground", 45 PH1-OSC-OUT (io) "GPIO Mode:PH1 High-speed external clock OSC output", 46 PH0-OSC-IN (io) "GPIO Mode:PH0 High-speed external clock OSC input", 47 TCXO-OUT (out) "Internal TCXO output", 48 VDD-TCXO (power) "Power supply for the TCXO IC", 49 GND (power) "Ground", 50 GND (power) "Ground", 51 GND (power) "Ground", 52 GND (power) "Ground", 53 GND (power) "Ground", 54 GND (power) "Ground", 55 GND (power) "Ground", 56 GND (power) "Ground", 57 GND (power) "Ground"

## CONN-1X1
designator J?
pins: 1

## CONN-1X2
designator J?
pins: 1, 2

## CONN-1X3
designator J?
pins: 1, 2, 3

## CONN-1X3-G2
designator J?
pins: 1, 2, 3, G1, G2

## CONN-1X4
designator J?
pins: 1, 2, 3, 4

## CONN-1X4-G2
designator J?
pins: 1, 2, 3, 4, G1, G2

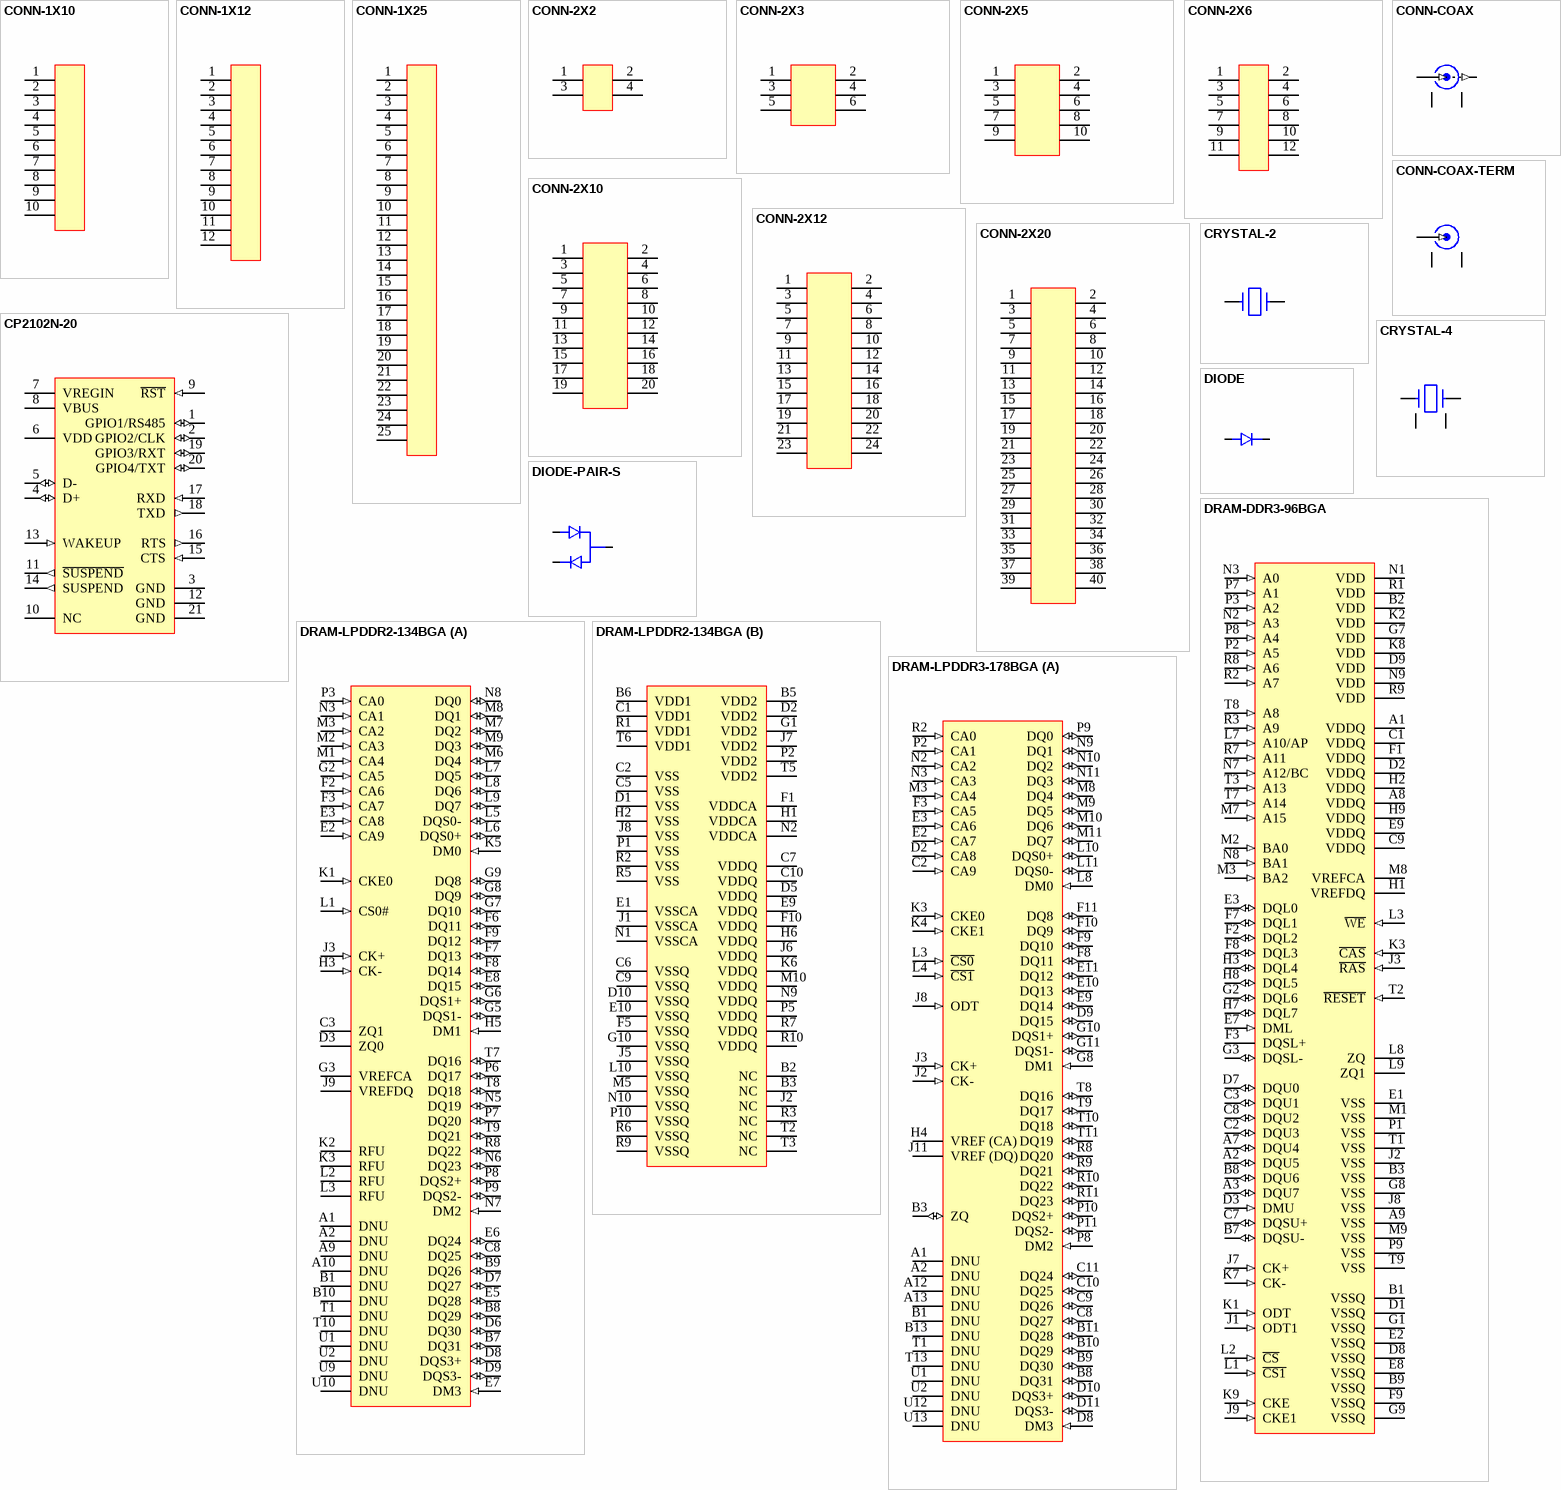
[diagram p3: symbols CONN-1X10 to DRAM-LPDDR3-178BGA]

## CONN-1X10
designator J?
pins: 1, 2, 3, 4, 5, 6, 7, 8, 9, 10

## CONN-1X12
designator J?
pins: 1, 2, 3, 4, 5, 6, 7, 8, 9, 10, 11, 12

## CONN-1X25
designator J?
pins: 1, 2, 3, 4, 5, 6, 7, 8, 9, 10, 11, 12, 13, 14, 15, 16, 17, 18, 19, 20, 21, 22, 23, 24, 25

## CONN-2X2
designator J?
pins: 1, 2, 3, 4

## CONN-2X3
designator J?
pins: 1, 2, 3, 4, 5, 6

## CONN-2X5
designator J?
pins: 1, 2, 3, 4, 5, 6, 7, 8, 9, 10

## CONN-2X6
designator J?
pins: 1, 2, 3, 4, 5, 6, 7, 8, 9, 10, 11, 12

## CONN-2X10
designator J?
pins: 1, 2, 3, 4, 5, 6, 7, 8, 9, 10, 11, 12, 13, 14, 15, 16, 17, 18, 19, 20

## CONN-2X12
designator J?
pins: 1, 2, 3, 4, 5, 6, 7, 8, 9, 10, 11, 12, 13, 14, 15, 16, 17, 18, 19, 20, 21, 22, 23, 24

## CONN-2X20
designator J?
pins: 1, 2, 3, 4, 5, 6, 7, 8, 9, 10, 11, 12, 13, 14, 15, 16, 17, 18, 19, 20, 21, 22, 23, 24, 25, 26, 27, 28, 29, 30, 31, 32, 33, 34, 35, 36, 37, 38, 39, 40

## CONN-COAX
designator J?
pins: 1 (in), 2 (out), G1 (power), G2 (power)

## CONN-COAX-TERM
designator J?
pins: 1 (in), G1 (power), G2 (power)

## CP2102N-20
designator U?
pins: 1 GPIO1/RS485 (io), 2 GPIO2/CLK (io), 3 GND (power), 4 D+ (io), 5 D- (io), 6 VDD (power), 7 VREGIN (power), 8 VBUS (power), 9 ~{RST} (in), 10 NC, 11 ~{SUSPEND} (out), 12 GND (power), 13 WAKEUP (in), 14 SUSPEND (out), 15 CTS (in), 16 RTS (out), 17 RXD (in), 18 TXD (out), 19 GPIO3/RXT (io), 20 GPIO4/TXT (io), 21 GND (power)

## CRYSTAL-2
designator Y?
pins: 1 IN, 2 OUT

## CRYSTAL-4
designator Y?
pins: 1 IN, 2 GND, 3 OUT, 4 GND

## DIODE
designator D?
pins: 1, 2

## DIODE-PAIR-S
designator D?
pins: 1, 2, 3

## DRAM-DDR3-96BGA
designator DU?
pins: A1 VDDQ (power) "Power", A2 DQU5 (io) "Data Bus", A3 DQU7 (io) "Data Bus", A7 DQU4 (io) "Data Bus", A8 VDDQ (power) "Power", A9 VSS (power) "Ground", B1 VSSQ (power) "Ground", B2 VDD (power) "Power", B3 VSS (power) "Ground", B7 DQSU- (io) "Data Bus", B8 DQU6 (io) "Data Bus", B9 VSSQ (power) "Ground", C1 VDDQ (power) "Power", C2 DQU3 (io) "Data Bus", C3 DQU1 (io) "Data Bus", C7 DQSU+ (io) "Data Bus", C8 DQU2 (io) "Data Bus", C9 VDDQ (power) "Power", D1  VSSQ (power) "Ground", D2 VDDQ (power) "Power", D3 DMU (in) "Data", D7 DQU0 (io) "Data Bus", D8 VSSQ (power) "Ground", D9 VDD (power) "Power", E1 VSS (power) "Ground", E2  VSSQ (power) "Ground", E3 DQL0 (io) "Data Bus", E7 DML (in) "Data", E8 VSSQ (power) "Ground", E9 VDDQ (power) "Power", F1 VDDQ (power) "Power", F2 DQL2 (io) "Data Bus", F3 DQSL+ (power) "Reference", F7 DQL1 (io) "Data Bus", F8 DQL3 (io) "Data Bus", F9 VSSQ (power) "Ground", G1 VSSQ (power) "Ground", G2 DQL6 (io) "Data Bus", G3 DQSL-  (io) "Data Bus", G7 VDD (power) "Power", G8 VSS (power) "Ground", G9 VSSQ (power) "Ground", H1  VREFDQ (power) "Reference", H2 VDDQ (power) "Power", H3 DQL4 (io) "Data Bus", H7 DQL7  (io) "Data Bus", H8 DQL5 (io) "Data Bus", H9 VDDQ (power) "Power", J1 ODT1  (in) "Data", J2 VSS (power) "Ground", J3  ~{RAS} (in) "Data", J7 CK+ (in) "Clock", J8 VSS (power) "Ground", J9 CKE1  (in) "Clock", K1 ODT (in) "Data", K2  VDD (power) "Power", K3  ~{CAS} (in) "Data", K7 CK- (in) "Clock", K8  VDD (power) "Power", K9 CKE (in) "Clock", L1 ~{CS1}  (in) "Data", L2  ~{CS} (in) "Data", L3 ~{WE} (in) "Data", L7 A10/AP (in) "Address", L8 ZQ (power) "Reference", L9 ZQ1 (power) "Reference", M1 VSS (power) "Ground", M2 BA0 (in) "Data", M3  BA2 (in) "Data", M7 A15 (in) "Address", M8  VREFCA (power) "Reference", M9 VSS (power) "Ground", N1 VDD (power) "Power", N2 A3  (in) "Address", N3 A0  (in) "Address", N7 A12/BC (in) "Address", N8 BA1 (in) "Data", N9 VDD (power) "Power", P1 VSS (power) "Ground", P2 A5  (in) "Address", P3 A2  (in) "Address", P7 A1  (in) "Address", P8 A4  (in) "Address", P9 VSS (power) "Ground", R1 VDD (power) "Power", R2 A7  (in) "Address", R3 A9  (in) "Address", R7 A11  (in) "Address", R8 A6  (in) "Address", R9 VDD (power) "Power", T1 VSS (power) "Ground", T2 ~{RESET} (in) "Reset", T3 A13 (in) "Address", T7 A14 (in) "Address", T8 A8  (in) "Address", T9 VSS (power) "Ground"

## DRAM-LPDDR2-134BGA
designator DU?
part A pins: A1 DNU "Do not use", A2 DNU "Do not use", A9 DNU "Do not use", A10 DNU "Do not use", B1 DNU "Do not use", B7 DQ31 (io) "Data Inputs/Outputs: Bi-directional data bus", B8 DQ29 (io) "Data Inputs/Outputs: Bi-directional data bus", B9 DQ26 (io) "Data Inputs/Outputs: Bi-directional data bus", B10 DNU "Do not use", C3 ZQ1 "External impedance (240 ohm): This signal is used to calibrate the device out- put impedance.", C8 DQ25 (io) "Data Inputs/Outputs: Bi-directional data bus", D3 ZQ0 "External impedance (240 ohm): This signal is used to calibrate the device out- put impedance.", D6 DQ30 (io) "Data Inputs/Outputs: Bi-directional data bus", D7 DQ27 (io) "Data Inputs/Outputs: Bi-directional data bus", D8 DQS3+ (io) "Data strobe: The data strobe is bidirectional (used for read and write data) and complementary (DQS and DQS#). It is edge-aligned output with read data and centered input with write data. DQS[3:0]/DQS[3:0]# is DQS for each of the four data bytes, respectively.", D9 DQS3- (io) "Data strobe: The data strobe is bidirectional (used for read and write data) and complementary (DQS and DQS#). It is edge-aligned output with read data and centered input with write data. DQS[3:0]/DQS[3:0]# is DQS for each of the four data bytes, respectively.", E2 CA9 (in) "Command/address inputs: Provide the command and address inputs according to the command truth table.", E3 CA8 (in) "Command/address inputs: Provide the command and address inputs according to the command truth table.", E5 DQ28 (io) "Data Inputs/Outputs: Bi-directional data bus", E6 DQ24 (io) "Data Inputs/Outputs: Bi-directional data bus", E7 DM3 (in) "Input data mask: DM is an input mask signal for write data. Although DM balls are input-only, the DM loading is designed to match that of DQ and DQS balls. DM[3:0] is DM for each of the four data bytes, respectively.", E8 DQ15 (io) "Data Inputs/Outputs: Bi-directional data bus", F2 CA6 (in) "Command/address inputs: Provide the command and address inputs according to the command truth table.", F3 CA7 (in) "Command/address inputs: Provide the command and address inputs according to the command truth table.", F6 DQ11 (io) "Data Inputs/Outputs: Bi-directional data bus", F7 DQ13 (io) "Data Inputs/Outputs: Bi-directional data bus", F8 DQ14 (io) "Data Inputs/Outputs: Bi-directional data bus", F9 DQ12 (io) "Data Inputs/Outputs: Bi-directional data bus", G2 CA5 (in) "Command/address inputs: Provide the command and address inputs according to the command truth table.", G3 VREFCA "Reference voltage: VREFCA is reference for command/address input buffers, VREFDQ is reference for DQ input buffers.", G5 DQS1- (io) "Data strobe: The data strobe is bidirectional (used for read and write data) and complementary (DQS and DQS#). It is edge-aligned output with read data and centered input with write data. DQS[3:0]/DQS[3:0]# is DQS for each of the four data bytes, respectively.", G6 DQS1+ (io) "Data strobe: The data strobe is bidirectional (used for read and write data) and complementary (DQS and DQS#). It is edge-aligned output with read data and centered input with write data. DQS[3:0]/DQS[3:0]# is DQS for each of the four data bytes, respectively.", G7 DQ10 (io) "Data Inputs/Outputs: Bi-directional data bus", G8 DQ9 (io) "Data Inputs/Outputs: Bi-directional data bus", G9 DQ8 (io) "Data Inputs/Outputs: Bi-directional data bus", H3 CK- (in) "Clock: CK and CK# are differential clock inputs. All CA inputs are sampled on both rising and falling edges of CK. CS and CKE inputs are sampled at the rising edge of CK. AC timings are referenced to clock.", H5 DM1 (in) "Input data mask: DM is an input mask signal for write data. Although DM balls are input-only, the DM loading is designed to match that of DQ and DQS balls. DM[3:0] is DM for each of the four data bytes, respectively.", J3 CK+ (in) "Clock: CK and CK# are differential clock inputs. All CA inputs are sampled on both rising and falling edges of CK. CS and CKE inputs are sampled at the rising edge of CK. AC timings are referenced to clock.", J9 VREFDQ "Reference voltage: VREFCA is reference for command/address input buffers, VREFDQ is reference for DQ input buffers.", K1 CKE0 (in) "Clock enable: CKE HIGH activates and CKE LOW deactivates the internal clock signals, input buffers, and output drivers. Power-saving modes are entered and exited via CKE transitions. CKE is considered part of the command code. CKE is sampled at the rising edge of CK.", K2 RFU "Reserved for future use: must be left floating", K3 RFU "Reserved for future use: must be left floating", K5 DM0 (in) "Input data mask: DM is an input mask signal for write data. Although DM balls are input-only, the DM loading is designed to match that of DQ and DQS balls. DM[3:0] is DM for each of the four data bytes, respectively.", L1 CS0# (in) "Chip select: CS# is considered part of the command code and is sampled at the rising edge of CK.", L2 RFU "Reserved for future use: must be left floating", L3 RFU "Reserved for future use: must be left floating", L5 DQS0- (io) "Data strobe: The data strobe is bidirectional (used for read and write data) and complementary (DQS and DQS#). It is edge-aligned output with read data and centered input with write data. DQS[3:0]/DQS[3:0]# is DQS for each of the four data bytes, respectively.", L6 DQS0+ (io) "Data strobe: The data strobe is bidirectional (used for read and write data) and complementary (DQS and DQS#). It is edge-aligned output with read data and centered input with write data. DQS[3:0]/DQS[3:0]# is DQS for each of the four data bytes, respectively.", L7 DQ5 (io) "Data Inputs/Outputs: Bi-directional data bus", L8 DQ6 (io) "Data Inputs/Outputs: Bi-directional data bus", L9 DQ7 (io) "Data Inputs/Outputs: Bi-directional data bus", M1 CA4 (in) "Command/address inputs: Provide the command and address inputs according to the command truth table.", M2 CA3 (in) "Command/address inputs: Provide the command and address inputs according to the command truth table.", M3 CA2 (in) "Command/address inputs: Provide the command and address inputs according to the command truth table.", M6 DQ4 (io) "Data Inputs/Outputs: Bi-directional data bus", M7 DQ2 (io) "Data Inputs/Outputs: Bi-directional data bus", M8 DQ1 (io) "Data Inputs/Outputs: Bi-directional data bus", M9 DQ3 (io) "Data Inputs/Outputs: Bi-directional data bus", N3 CA1 (in) "Command/address inputs: Provide the command and address inputs according to the command truth table.", N5 DQ19 (io) "Data Inputs/Outputs: Bi-directional data bus", N6 DQ23 (io) "Data Inputs/Outputs: Bi-directional data bus", N7 DM2 (in) "Input data mask: DM is an input mask signal for write data. Although DM balls are input-only, the DM loading is designed to match that of DQ and DQS balls. DM[3:0] is DM for each of the four data bytes, respectively.", N8 DQ0 (io) "Data Inputs/Outputs: Bi-directional data bus", P3 CA0 (in) "Command/address inputs: Provide the command and address inputs according to the command truth table.", P6 DQ17 (io) "Data Inputs/Outputs: Bi-directional data bus", P7 DQ20 (io) "Data Inputs/Outputs: Bi-directional data bus", P8 DQS2+ (io) "Data strobe: The data strobe is bidirectional (used for read and write data) and complementary (DQS and DQS#). It is edge-aligned output with read data and centered input with write data. DQS[3:0]/DQS[3:0]# is DQS for each of the four data bytes, respectively.", P9 DQS2- (io) "Data strobe: The data strobe is bidirectional (used for read and write data) and complementary (DQS and DQS#). It is edge-aligned output with read data and centered input with write data. DQS[3:0]/DQS[3:0]# is DQS for each of the four data bytes, respectively.", R8 DQ22 (io) "Data Inputs/Outputs: Bi-directional data bus", T1 DNU "Do not use", T7 DQ16 (io) "Data Inputs/Outputs: Bi-directional data bus", T8 DQ18 (io) "Data Inputs/Outputs: Bi-directional data bus", T9 DQ21 (io) "Data Inputs/Outputs: Bi-directional data bus", T10 DNU "Do not use", U1 DNU "Do not use", U2 DNU "Do not use", U9 DNU "Do not use", U10 DNU "Do not use"
part B pins: B2 NC "Not connected", B3 NC "Not connected", B5 VDD2 (power) "Core Power Supply 2: Core power supply.", B6 VDD1 (power) "Core Power Supply 1: Core power supply.", C1 VDD1 (power) "Core Power Supply 1: Core power supply.", C2 VSS (power) "Ground", C5 VSS (power) "Ground", C6 VSSQ (power) "Ground", C7 VDDQ (power) "DQ power supply: Isolated on the die for improved noise immunity.", C9 VSSQ (power) "Ground", C10 VDDQ (power) "DQ power supply: Isolated on the die for improved noise immunity.", D1 VSS (power) "Ground", D2 VDD2 (power) "Core Power Supply 2: Core power supply.", D5 VDDQ (power) "DQ power supply: Isolated on the die for improved noise immunity.", D10 VSSQ (power) "Ground", E1 VSSCA (power) "Ground", E9 VDDQ (power) "DQ power supply: Isolated on the die for improved noise immunity.", E10 VSSQ (power) "Ground", F1 VDDCA (power) "Command/address power supply: Command/address power supply.", F5 VSSQ (power) "Ground", F10 VDDQ (power) "DQ power supply: Isolated on the die for improved noise immunity.", G1 VDD2 (power) "Core Power Supply 2: Core power supply.", G10 VSSQ (power) "Ground", H1 VDDCA (power) "Command/address power supply: Command/address power supply.", H2 VSS (power) "Ground", H6 VDDQ (power) "DQ power supply: Isolated on the die for improved noise immunity.", J1 VSSCA (power) "Ground", J2 NC "Not connected", J5 VSSQ (power) "Ground", J6 VDDQ (power) "DQ power supply: Isolated on the die for improved noise immunity.", J7 VDD2 (power) "Core Power Supply 2: Core power supply.", J8 VSS (power) "Ground", K6 VDDQ (power) "DQ power supply: Isolated on the die for improved noise immunity.", L10 VSSQ (power) "Ground", M5 VSSQ (power) "Ground", M10 VDDQ (power) "DQ power supply: Isolated on the die for improved noise immunity.", N1 VSSCA (power) "Ground", N2 VDDCA (power) "Command/address power supply: Command/address power supply.", N9 VDDQ (power) "DQ power supply: Isolated on the die for improved noise immunity.", N10 VSSQ (power) "Ground", P1 VSS (power) "Ground", P2 VDD2 (power) "Core Power Supply 2: Core power supply.", P5 VDDQ (power) "DQ power supply: Isolated on the die for improved noise immunity.", P10 VSSQ (power) "Ground", R1 VDD1 (power) "Core Power Supply 1: Core power supply.", R2 VSS (power) "Ground", R3 NC "Not connected", R5 VSS (power) "Ground", R6 VSSQ (power) "Ground", R7 VDDQ (power) "DQ power supply: Isolated on the die for improved noise immunity.", R9 VSSQ (power) "Ground", R10 VDDQ (power) "DQ power supply: Isolated on the die for improved noise immunity.", T2 NC "Not connected", T3 NC "Not connected", T5 VDD2 (power) "Core Power Supply 2: Core power supply.", T6 VDD1 (power) "Core Power Supply 1: Core power supply."

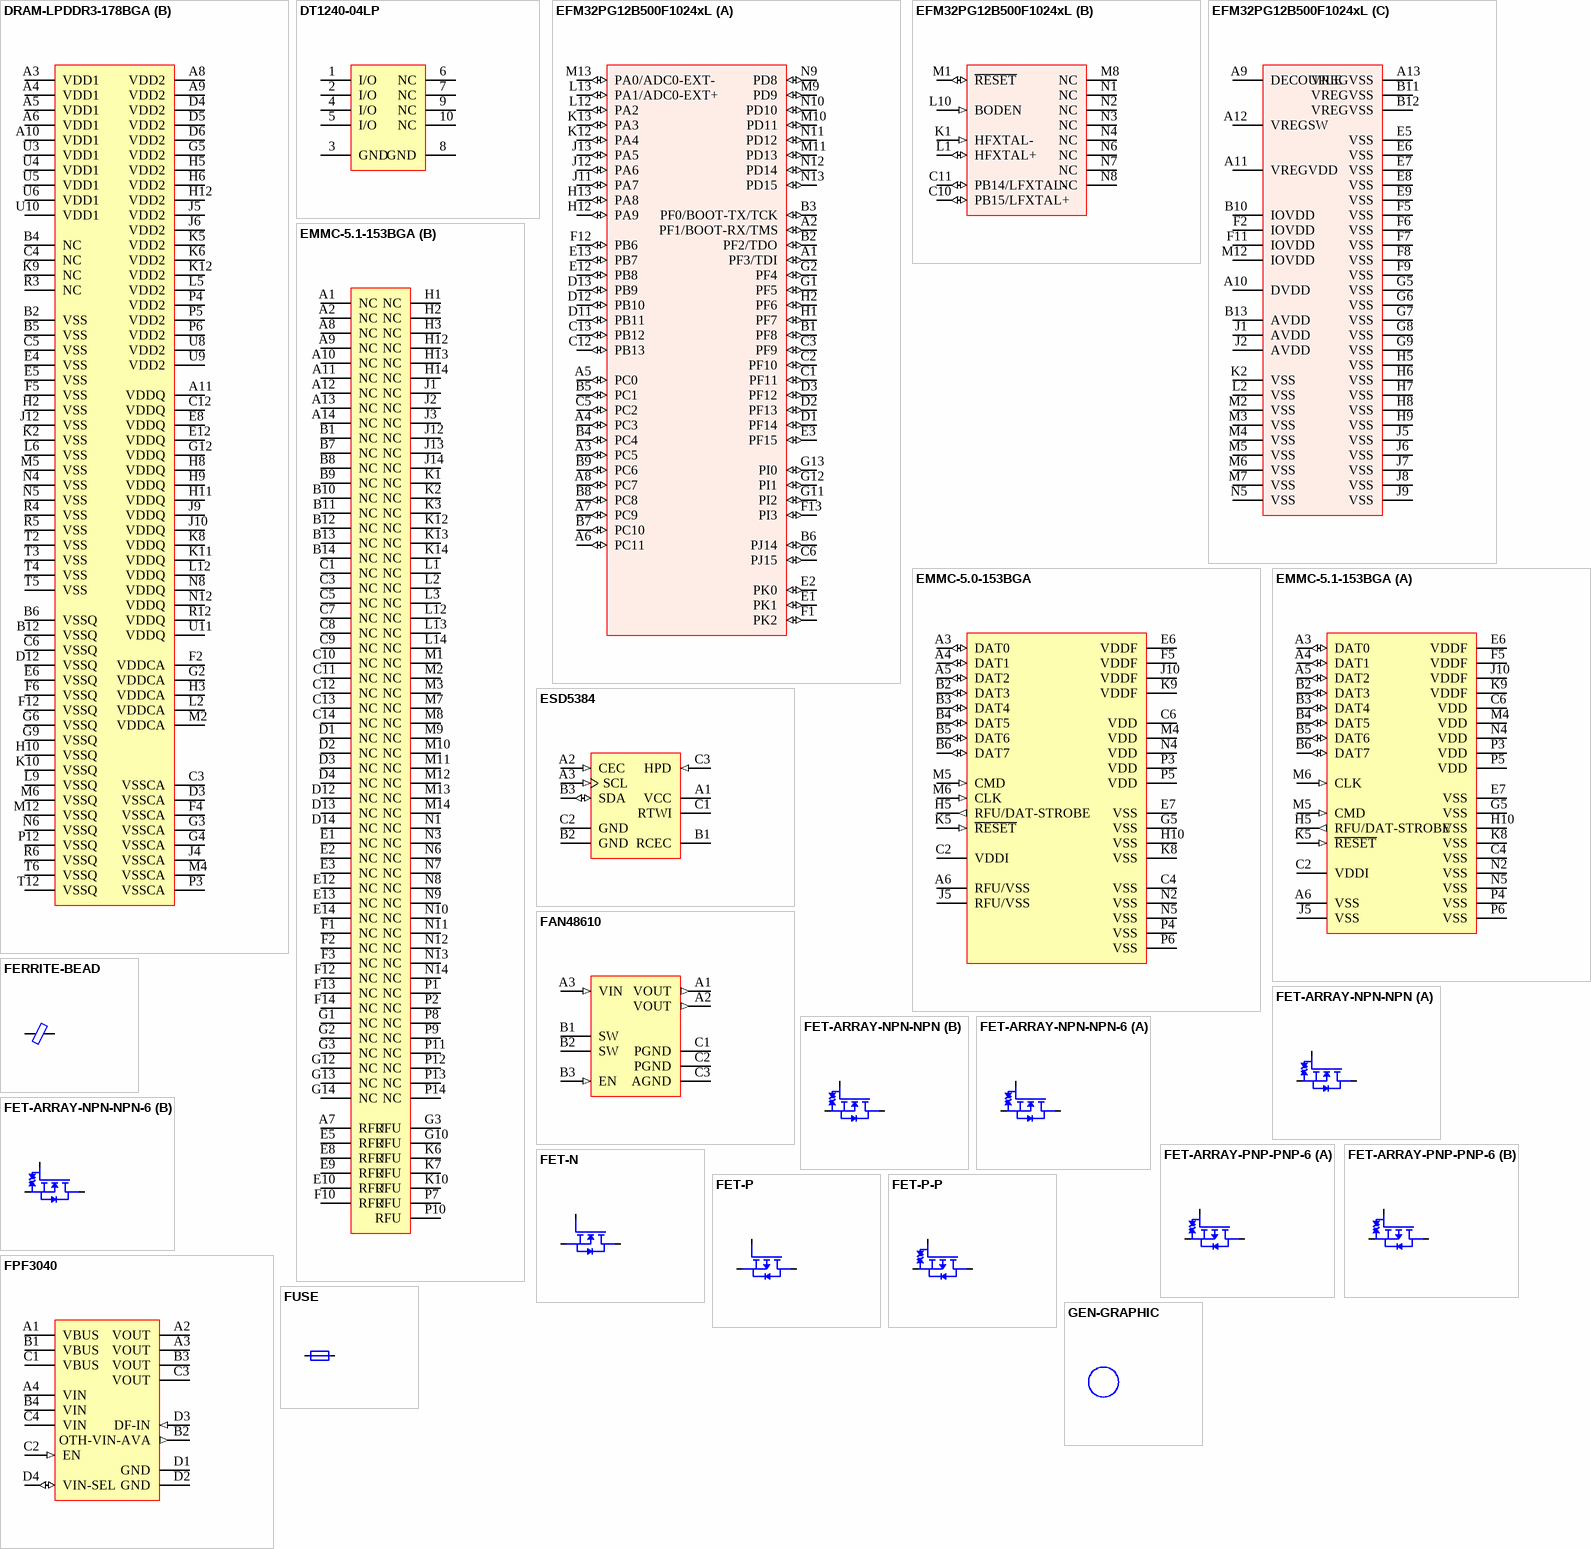
[diagram p4: symbols DRAM-LPDDR3-178BGA to GEN-GRAPHIC]